# Altium footprint library SOP-16_208mil.PcbLib: 1 footprints
Each footprint in its own frame and in the unit in brackets; x right, y up, seen from the top. Pads: shape width x height; smd on the part's side, far side on the other; paste and mask are expansions set on the pad; w line width, h text height; cw(c..) or ccw(c..) is an arc to the next point about the centre after c.
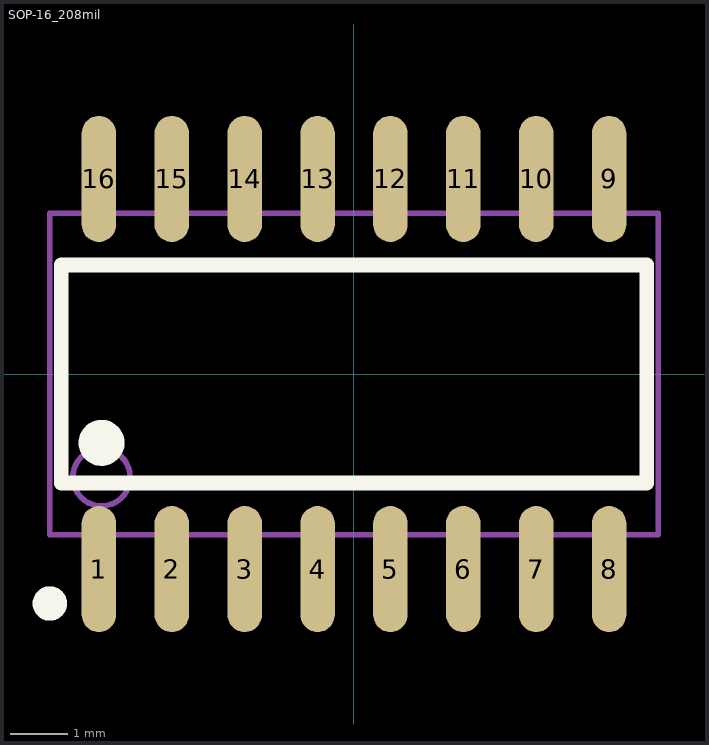
[diagram p0: the footprint, top view; thin cyan lines are the x and y axes]

## SOP-16_208mil [mm]
pads (16):
  oval 0.6x2.2 smd: 1(-4.445,-3.4) 2(-3.175,-3.4) 3(-1.905,-3.4) 4(-0.635,-3.4) 5(0.635,-3.4) 6(1.905,-3.4) 7(3.175,-3.4) 8(4.445,-3.4) 9(4.445,3.4) 10(3.175,3.4) 11(1.905,3.4) 12(0.635,3.4) 13(-0.635,3.4) 14(-1.905,3.4) 15(-3.175,3.4) 16(-4.445,3.4)
Top Overlay:
  circle w0.3: c-5.3,-4 r0.15
  circle w0.4: c-4.4,-1.2 r0.2
  lines w0.254: -5.1,-1.9 -5.1,1.9 5.1,1.9 5.1,-1.9 -5.1,-1.9
Mechanical 13:
  circle w0.1: c-4.4,-1.8 r0.5
  lines w0.1: -5.3,-2.8 -5.3,2.8 5.3,2.8 5.3,-2.8 -5.3,-2.8